# Altium schematic symbol library PJ-037A.SchLib: 1 symbol
Pins are listed as number, name and electrical type; pins without a type are passive.

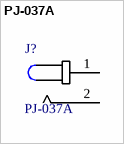
[diagram p0: symbol PJ-037A]

## PJ-037A
designator J?
2.0 x 6.5 mm, 2.5 A, Horizontal, Through Hole, Dc Power Jack Connector; MF: CUI Inc.; SnapEDA_Link: https://www.snapeda.com/parts/PJ-037A/CUI%20Inc./view-part/?ref=snap; MP: PJ-037A; Digi-Key_Purchase_URL: https://www.digikey.com/product-detail/en/cui-devices/PJ-037A/CP-037A-ND/1644545?utm_source=snapeda&utm_medium=aggregator&utm_campaign=symbol; Digi-Key_Part_Number: CP-037A-ND; Package: None; CUI_purchase_URL: https://www.cui.com/product/interconnect/connectors/dc-power-connectors/jacks/pj-037a?utm_source=snapeda.com&utm_medium=referral&utm_campaign=snapedaBOM; Value: *
footprint *CUI_PJ-037A
pins: 1, 2